# Altium schematic symbol library TB67H450FNG.SchLib: 1 symbol
Pins are listed as number, name and electrical type; pins without a type are passive.

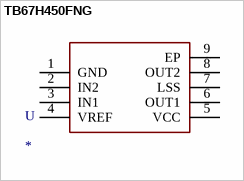
[diagram p0: symbol TB67H450FNG]

## TB67H450FNG
designator U
pins: 1 GND, 2 IN2, 3 IN1, 4 VREF, 5 VCC, 6 OUT1, 7 LSS, 8 OUT2, 9 EP